# Altium footprint library FIT2017_UnoShield.PcbLib: 5 footprints
Each footprint in its own frame and in the unit in brackets; x right, y up, seen from the top. Pads: shape width x height; smd on the part's side, far side on the other; paste and mask are expansions set on the pad; w line width, h text height; cw(c..) or ccw(c..) is an arc to the next point about the centre after c.
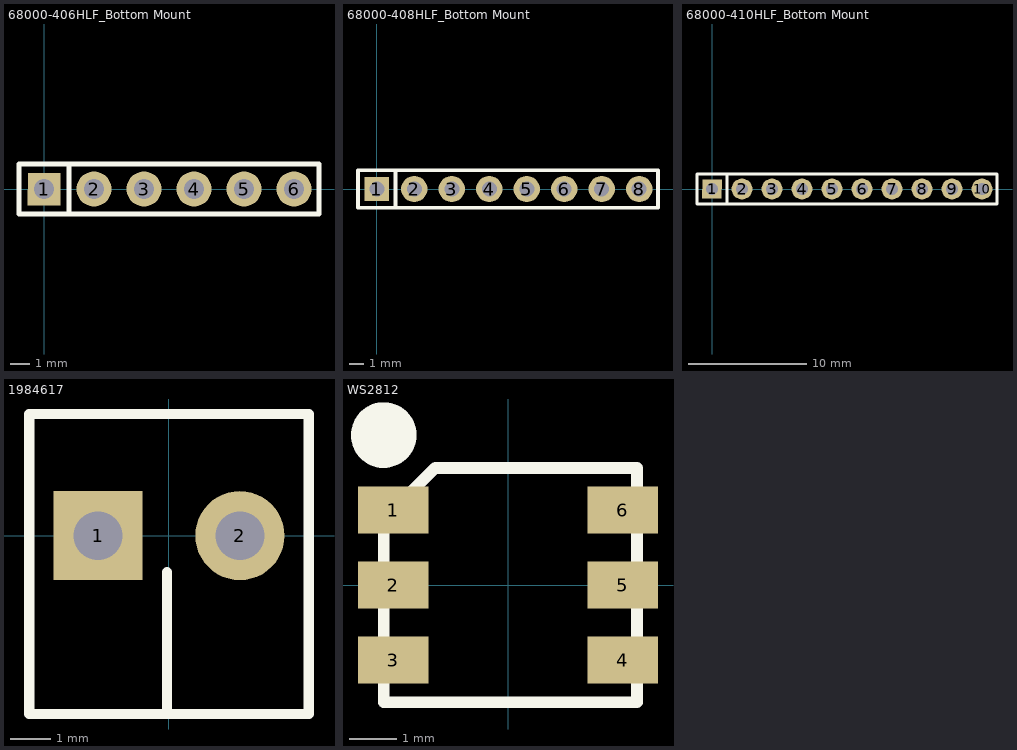
[diagram p0: the footprints below, top view; thin cyan lines are the x and y axes]

## 68000-406HLF_Bottom Mount [mil] "6-pin Header \"Bottom Mounted\""
pads (6):
  rect 65x65 hole 40: 1(0,0)
  round 70 hole 40: 2(100,0) 3(200,0) 4(300,0) 5(400,0) 6(500,0)
Top Overlay:
  lines w10: 50,-50 50,50 ; -50,-50 -50,50 550,50 550,-50 -50,-50
3D body "TSW-106-05-G-S.stp": height 230.5, standoff -104.5, extent -55,-49.99 550,50.01

## 68000-408HLF_Bottom Mount [mil] "8-pin Header \"Bottom Mounted\""
pads (8):
  rect 65x65 hole 40: 1(0,0)
  round 70 hole 40: 2(100,0) 3(200,0) 4(300,0) 5(400,0) 6(500,0) 7(600,0) 8(700,0)
Top Overlay:
  lines w10: 50,-50 50,50 ; -50,-50 -50,50 750,50 750,-50 -50,-50
3D body "TSW-108-05-G-S.stp": height 230.5, standoff -104.5, extent -50,-50.01 755,49.99

## 68000-410HLF_Bottom Mount [mil] "10-pin Header \"Bottom Mounted\""
pads (10):
  rect 65x65 hole 40: 1(0,0)
  round 70 hole 40: 2(100,0) 3(200,0) 4(300,0) 5(400,0) 6(500,0) 7(600,0) 8(700,0) 9(800,0) 10(900,0)
Top Overlay:
  lines w10: 50,-50 50,50 ; -50,-50 950,-50 950,50 -50,50 -50,-50
3D body "TSW-110-05-G-S.stp": height 230.5, standoff -104.5, extent -55,-49.99 950,50.01

## 1984617 [mm] "Phoenix 2-pin 3.5mm screw terminal"
pads (2):
  rect 2.2x2.2 hole 1.2: 1(-1.75,0)
  round 2.2 hole 1.2: 2(1.75,0)
Top Overlay:
  lines w0.254: -0.05,-4.4 -0.05,-0.9 ; 3.45,-0.9 3.45,-4.4 ; 3.45,-4.4 3.45,3 -3.45,3 -3.45,-4.4 3.45,-4.4
3D body "1984617.stp": height 9.05, standoff -4.45, extent -3.51,-4.5 4.06,3.1

## WS2812 [mm]
pads (6):
  rect 1.5x1 smd: 1(-2.45,1.6) 2(-2.45,0) 3(-2.45,-1.6) 4(2.45,-1.6) 5(2.45,0) 6(2.45,1.6)
Top Overlay:
  circle w1: c-2.65,3.2 r0.2
  lines w0.254: -2.65,-2.5 -2.65,1.4 -1.55,2.5 2.75,2.5 2.75,-2.5 -2.65,-2.5
3D body: height 1.6, standoff 0, extent -1.438,-1.497 1.55,1.497
3D body "WS2812.step": height 1.5, standoff -0.2, extent -2.625,-2.475 2.725,2.475